# EAGLE library part BQ2980 (library bschulz)
BQ2980 - Voltage, Current, Temperature Protectors with an Integrated High-Side NFET (BMS) Characteristics: Vpack: < 20V Vdd: 1.5V ~ 5.5V Vbat: 1.5V ~ 5.5V IQ: 1μA Normal, 0.1μA Shutdown Operating Temperature: -40°C to 85°C Digikey: 296-47578-1-ND <https://www.digikey.com/product-detail/en/texas-instruments/BQ298000RUGT/296-47578-1-ND/8111032>
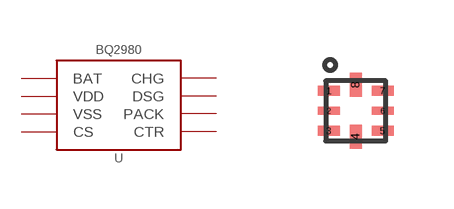
[diagram p73: symbol with the pads of RUG_S-PQFP-N8; footprint RUG_S-PQFP-N8]

Designator prefix U

## BQ2980RUG (DIGIKEY: 296-47578-1-ND; MF: TI; MOUSER: 595-BQ298000RUGT; MPN: BQ298000RUGT)  [RUG_S-PQFP-N8]
1  BAT  pwr
2  VDD  pwr
3  VSS  pwr
4  CS  in
5  CTR  in
6  PACK  in
7  DSG  out
8  CHG  out

## Footprint RUG_S-PQFP-N8 (pad centres in mm)
smd 0.55 x 0.25: 1 -0.675,0.5; 3 -0.675,-0.5; 5 0.675,-0.5; 7 0.675,0.5
smd 0.55 x 0.2: 2 -0.675,0; 6 0.675,0
smd 0.3 x 0.6: 4 0,-0.65; 8 0,0.65